# EAGLE library part HC-06 (library HC-06)
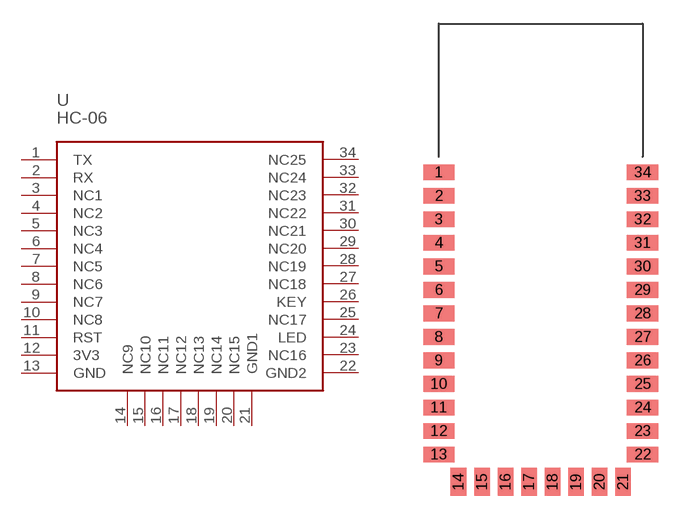
[diagram p0: symbol with the pads of BLUETOOTH_SMD; footprint BLUETOOTH_SMD]

Designator prefix -

## HC-06  [BLUETOOTH_SMD]
1  TX
2  RX
3  NC1
4  NC2
5  NC3
6  NC4
7  NC5
8  NC6
9  NC7
10  NC8
11  RST
12  3V3
13  GND
14  NC9
15  NC10
16  NC11
17  NC12
18  NC13
19  NC14
20  NC15
21  GND1
22  GND2
23  NC16
24  LED
25  NC17
26  KEY
27  NC18
28  NC19
29  NC20
30  NC21
31  NC22
32  NC23
33  NC24
34  NC25

## Footprint BLUETOOTH_SMD (pad centres in mm)
smd 2 x 1: 1 -6.35,3.81; 2 -6.35,2.31; 3 -6.35,0.81; 4 -6.35,-0.69; 5 -6.35,-2.19; 6 -6.35,-3.69; 7 -6.35,-5.19; 8 -6.35,-6.69; 9 -6.35,-8.19; 10 -6.35,-9.69; 11 -6.35,-11.19; 12 -6.35,-12.69; 13 -6.35,-14.19; 22 6.65,-14.19; 23 6.65,-12.69; 24 6.65,-11.19; 25 6.65,-9.69; 26 6.65,-8.19; 27 6.65,-6.69; 28 6.65,-5.19; 29 6.65,-3.69; 30 6.65,-2.19; 31 6.65,-0.69; 32 6.65,0.81; 33 6.65,2.31; 34 6.65,3.81
smd 1 x 1.8: 14 -5.1,-15.94; 15 -3.6,-15.94; 16 -2.1,-15.94; 17 -0.6,-15.94; 18 0.9,-15.94; 19 2.4,-15.94; 20 3.9,-15.94; 21 5.4,-15.94